# Altium footprint library ShutdownButton2.PcbLib: 1 footprints
Each footprint in its own frame and in the unit in brackets; x right, y up, seen from the top. Pads: shape width x height; smd on the part's side, far side on the other; paste and mask are expansions set on the pad; w line width, h text height; cw(c..) or ccw(c..) is an arc to the next point about the centre after c.
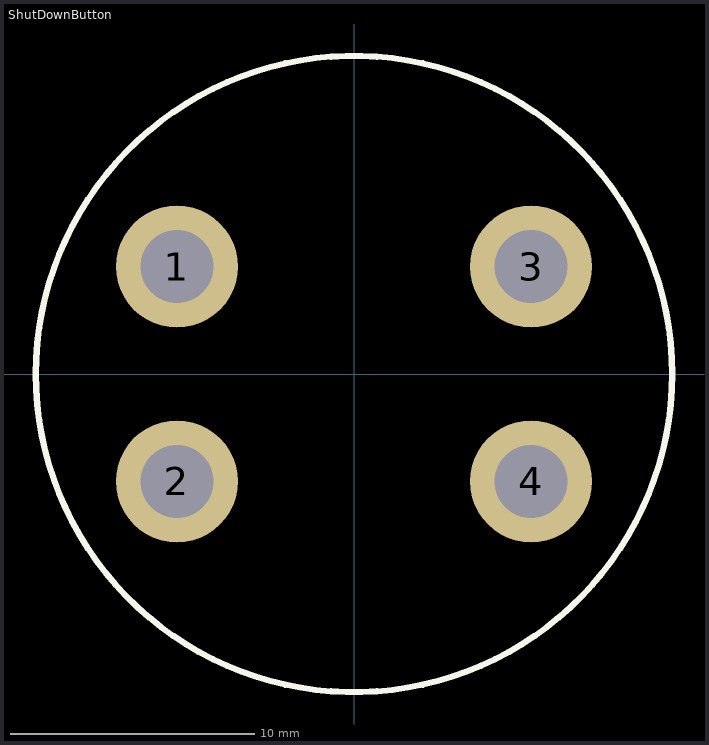
[diagram p0: the footprint, top view; thin cyan lines are the x and y axes]

## ShutDownButton [mm] "Emergency-stop switch complete, foolproof EN IEC 60947-5-5"
pads (4):
  round 5 hole 3: 1(-7.25,4.4) 2(-7.25,-4.4) 3(7.25,4.4) 4(7.25,-4.4)
Top Overlay:
  circle w0.254: c0,0 r13.029